# Altium schematic symbol library Трансформаторы импульсные.SCHLIB: 13 symbols
Pins are listed as number, name and electrical type; pins without a type are passive.

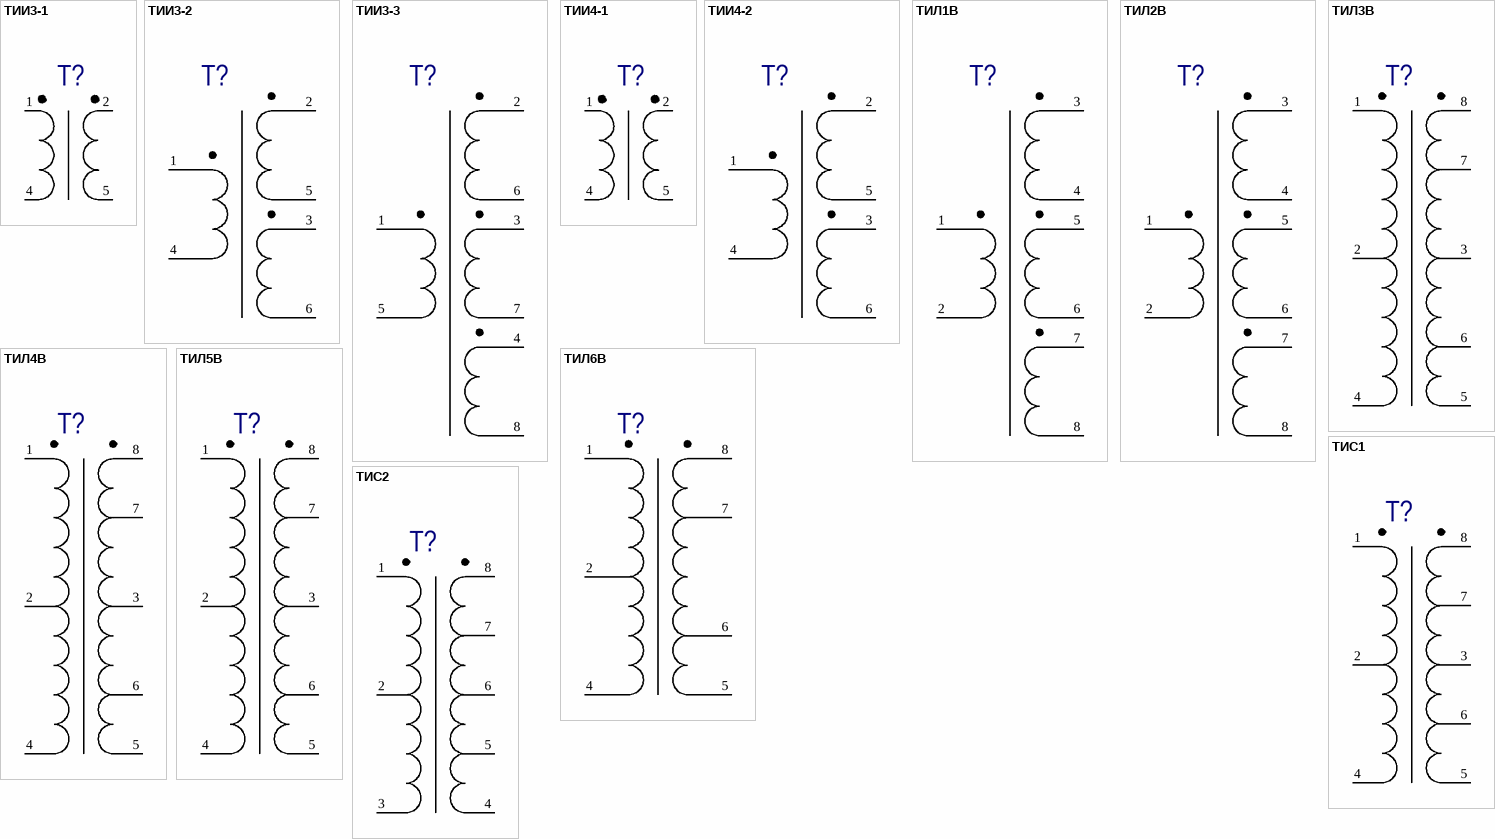
[diagram p0: symbols ТИИ3-1 to ТИС2]

## ТИИ3-1
designator T?
2 обмотки; Manufacturer: ПАО  «МСТАТОР»; ManufacturerCountry: Россия; Value: {Value}; Наименование элемента: ТИИ3; Category: Трансформатор импульсный; ComponentLink1Description: Manufacturer Link; ComponentHeight: 20 мм
footprint ТИИ3-1 (30х6х20)
pins: 1, 2, 4, 5

## ТИИ3-2
designator Т?
3 обмотки; Manufacturer: ПАО  «МСТАТОР»; ManufacturerCountry: Россия; Value: {Value}; Наименование элемента: ТИИ3; Category: Трансформатор; ComponentLink1Description: Manufacturer Link; ComponentHeight: 20мм
footprint ТИИ3-2 (30х6х20)
pins: 1, 2, 3, 4, 5, 6

## ТИИ3-3
designator Т?
4 обмотки; Manufacturer: ПАО  «МСТАТОР»; ManufacturerCountry: Россия; Value: {Value}; Наименование элемента: ТИИ3; Category: Трансформатор; ComponentLink1Description: Manufacturer Link; ComponentHeight: 20,5мм
footprint ТИИ3-3 (40,5х5,5х20,5)
pins: 1, 2, 3, 4, 5, 6, 7, 8

## ТИИ4-1
designator T?
2 обмотки; Manufacturer: ПАО  «МСТАТОР»; ManufacturerCountry: Россия; Value: {Value}; Наименование элемента: ТИИ4; Category: Трансформатор импульсный; ComponentLink1Description: Manufacturer Link; ComponentHeight: 20 мм
footprint ТИИ4-1 (30х6х20)
pins: 1, 2, 4, 5

## ТИИ4-2
designator Т?
3 обмотки; Manufacturer: ПАО  «МСТАТОР»; ManufacturerCountry: Россия; Value: {Value}; Наименование элемента: ТИИ4; Category: Трансформатор; ComponentLink1Description: Manufacturer Link; ComponentHeight: 20мм
footprint ТИИ4-2 (30х6х20)
pins: 1, 2, 3, 4, 5, 6

## ТИЛ1В
designator Т?
Коэф.трансф-и: 1,0/1,0/1,0; Manufacturer: ПАО  «МСТАТОР»; ManufacturerCountry: Россия; Value: {Value}; Наименование элемента: ТИЛ1В; Category: Трансформатор; ComponentLink1Description: Manufacturer Link; ComponentHeight: 9мм
footprint ТИЛ1В (20х20х9, 5g)
pins: 1, 2, 3, 4, 5, 6, 7, 8

## ТИЛ2В
designator Т?
Коэф.трансф-и: 1,0/1,0/1,0; Manufacturer: ПАО  «МСТАТОР»; ManufacturerCountry: Россия; Value: {Value}; Наименование элемента: ТИЛ2В; Category: Трансформатор; ComponentLink1Description: Manufacturer Link; ComponentHeight: 6,5мм
footprint ТИЛ2В (12x12.5x6.5, 2g)
pins: 1, 2, 3, 4, 5, 6, 7, 8

## ТИЛ3В
designator Т?
Коэф.трансф-и: 1,0/0,5/0,5/0,2/0,2; Manufacturer: ПАО  «МСТАТОР»; ManufacturerCountry: Россия; Value: {Value}; Наименование элемента: ТИЛ3В; Category: Трансформатор; ComponentLink1Description: Manufacturer Link; ComponentHeight: 6,5мм
footprint ТИЛ3В (12x12.5x6.5, 2g)
pins: 1, 2, 3, 4, 5, 6, 7, 8

## ТИЛ4В
designator Т?
Коэф.трансф-и: 1,0/0,5/0,5/0,2/0,2; Manufacturer: ПАО  «МСТАТОР»; ManufacturerCountry: Россия; Value: {Value}; Наименование элемента: ТИЛ4В; Category: Трансформатор; ComponentLink1Description: Manufacturer Link; ComponentHeight: 9мм
footprint ТИЛ4В (16.5x16.5x9, 4g)
pins: 1, 2, 3, 4, 5, 6, 7, 8

## ТИЛ5В
designator Т?
Коэф.трансф-и: 1,0/0,64/0,64/0,26/0,26; Manufacturer: ПАО  «МСТАТОР»; ManufacturerCountry: Россия; Value: {Value}; Наименование элемента: ТИЛ5В; Category: Трансформатор; ComponentLink1Description: Manufacturer Link; ComponentHeight: 6,5мм
footprint ТИЛ5В (12x12.5x6.5, 2g)
pins: 1, 2, 3, 4, 5, 6, 7, 8

## ТИЛ6В
designator Т?
1-4:8-5(7-6) / 1:2,5(1,79); Manufacturer: ПАО  «МСТАТОР»; ManufacturerCountry: Россия; Value: {Value}; Наименование элемента: ТИЛ6В; Category: Трансформатор; ComponentLink1Description: Manufacturer Link; ComponentHeight: 6,5мм
footprint ТИЛ6В (12x12.5x6.5, 2g)
pins: 1, 2, 4, 5, 6, 7, 8

## ТИС1
designator Т?
5 номиналов; Manufacturer: ПАО  «МСТАТОР»; ManufacturerCountry: Россия; Value: {Value}; Наименование элемента: ТИС1; Category: Трансформатор; ComponentLink1Description: Manufacturer Link; ComponentHeight: 5,8мм
footprint ТИС1 (8x8.2x5.8, 1g)
pins: 1, 2, 3, 4, 5, 6, 7, 8

## ТИС2
designator Т?
5 номиналов; Manufacturer: ПАО  «МСТАТОР»; ManufacturerCountry: Россия; Value: {Value}; Наименование элемента: ТИС2; Category: Трансформатор; ComponentLink1Description: Manufacturer Link; ComponentHeight: 5,8мм
footprint ТИС2 (8x8.2x5.8, 1g)
pins: 1, 2, 3, 4, 5, 6, 7, 8